# EAGLE library part COS4427 (library LARS_409_MC)
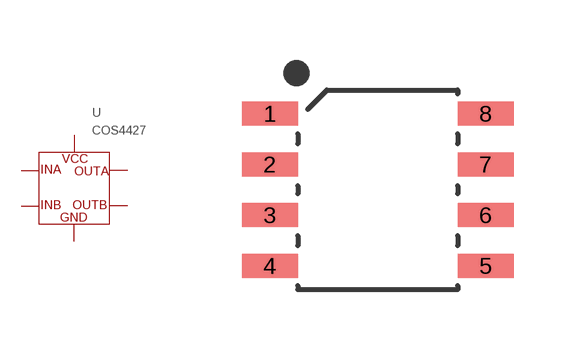
[diagram p41: symbol with the pads of SOIC-8; footprint SOIC-8]

Designator prefix U

## COS4427  [SOIC-8]
2  INA
3  GND
4  INB
5  OUTB
6  VCC
7  OUTA

## Footprint SOIC-8 (pad centres in mm)
8-SOIC, 1.27 mm pitch, 6.00 mm span, 4.90 X 4.90 X 1.50 mm body 8-pin SOIC package with 1.27 mm pitch, 6.00 mm span with body size 4.90 X 4.90 X 1.50 mm
smd 1.4 x 0.6: 1 -2.7,1.905; 2 -2.7,0.635; 3 -2.7,-0.635; 4 -2.7,-1.905; 5 2.7,-1.905; 6 2.7,-0.635; 7 2.7,0.635; 8 2.7,1.905